# Altium footprint library Trans_Texas_Instruments_CSD17381F4.PcbLib: 1 footprints
Each footprint in its own frame and in the unit in brackets; x right, y up, seen from the top. Pads: shape width x height; smd on the part's side, far side on the other; paste and mask are expansions set on the pad; w line width, h text height; cw(c..) or ccw(c..) is an arc to the next point about the centre after c.
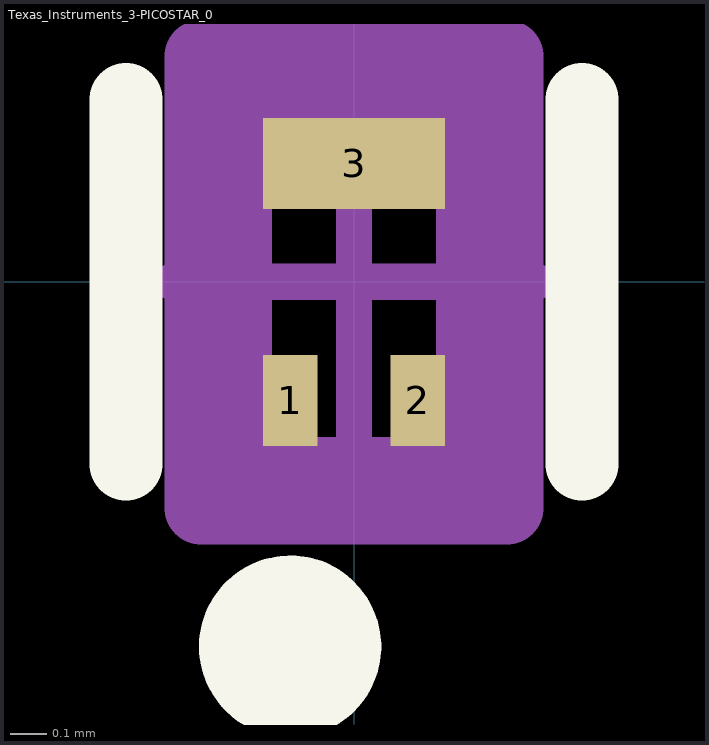
[diagram p0: the footprint, top view; thin cyan lines are the x and y axes]

## Texas_Instruments_3-PICOSTAR_0 [mm]
pads (3):
  rect 0.15x0.25 smd paste+0 mask+0: 1(-0.175,-0.325) 2(0.175,-0.325)
  rect 0.5x0.25 smd paste+0 mask+0: 3(0,0.325)
Top Overlay:
  circle w0.25: c-0.175,-1 r0.125
  lines w0.2: -0.625,-0.5 -0.625,0.5 ; 0.625,-0.5 0.625,0.5
Mechanical 10:
  lines w0.2: -0.42,-0.62 0.42,-0.62 0.42,0.62 -0.42,0.62 -0.42,-0.62
  text ".Designator" at 0,0 h1
Mechanical 12:
  lines w0.15: -0.3,-0.5 0.3,-0.5 0.3,0.5 -0.3,0.5 -0.3,-0.5
Mechanical 15:
  lines w0.1: -0.5,0 0.5,0 ; 0,-0.5 0,0.5
  lines w0.2: -0.42,-0.62 0.42,-0.62 0.42,0.62 -0.42,0.62 -0.42,-0.62
3D body "3dmodel.step": height 0.25, standoff 0, extent -0.42,-0.62 0.42,0.62